# Altium schematic symbol library 560020-1020.SchLib: 1 symbol
Pins are listed as number, name and electrical type; pins without a type are passive.

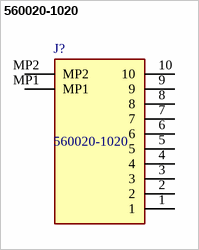
[diagram p0: symbol 560020-1020]

## 560020-1020
designator J?
Headers & Wire Housings 2.0 W/B SMT ST10ckt EMBOSSED TP PKG; Manufacturer_Name: Molex; Geometry.Height: 8mm; Mouser Part Number: 538-560020-1020; Mouser Price/Stock: https://www.mouser.co.uk/ProductDetail/Molex/560020-1020?qs=c8NFF48pVsBr9szpbon2vA%3D%3D; Manufacturer_Part_Number: 560020-1020; Datasheet Link: https://www.molex.com/pdm_docs/sd/5600201020_sd.pdf
footprint 5600201020
pins: 1, 2, 3, 4, 5, 6, 7, 8, 9, 10, MP1, MP2